# Altium footprint library SN65LVDS4.PcbLib: 1 footprints
Each footprint in its own frame and in the unit in brackets; x right, y up, seen from the top. Pads: shape width x height; smd on the part's side, far side on the other; paste and mask are expansions set on the pad; w line width, h text height; cw(c..) or ccw(c..) is an arc to the next point about the centre after c.
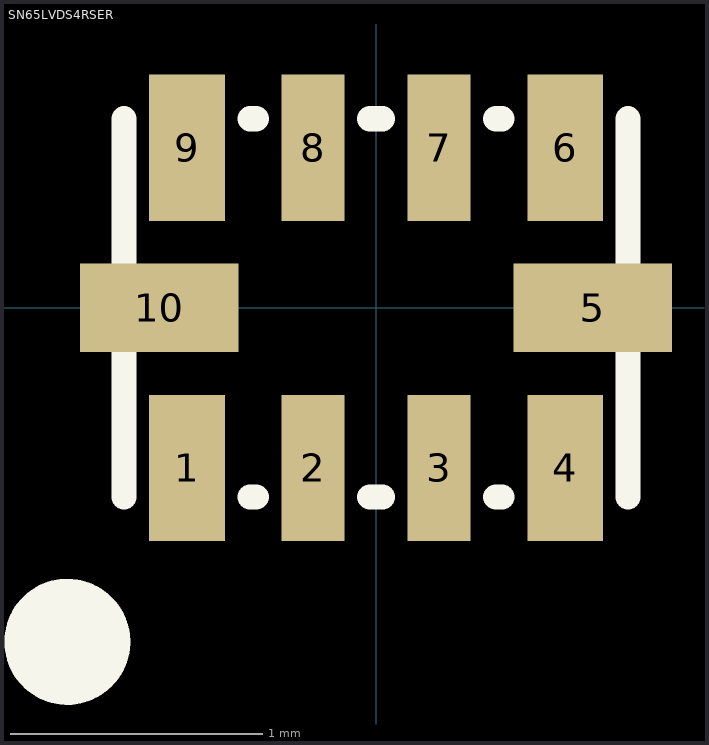
[diagram p0: the footprint, top view; thin cyan lines are the x and y axes]

## SN65LVDS4RSER [mm] "SN65LVDS4  1.8-V High-Speed  Differential  Line Receiver"
pads (10):
  rect 0.3x0.58 smd mask+0.05: 1(-0.75,-0.635) 4(0.75,-0.635) 6(0.75,0.635) 9(-0.75,0.635)
  rect 0.25x0.58 smd mask+0.05: 2(-0.25,-0.635) 3(0.25,-0.635) 7(0.25,0.635) 8(-0.25,0.635)
  rect 0.63x0.35 smd mask+0.05: 5(0.86,0) 10(-0.86,0)
Top Overlay:
  circle w0.25: c-1.225,-1.325 r0.125
  lines w0.1: -1,-0.75 -1,0.75 ; -0.5,-0.75 -0.475,-0.75 ; -0.5,0.75 -0.475,0.75 ; -0.025,-0.75 0.025,-0.75 ; -0.025,0.75 0.025,0.75 ; 0.475,-0.75 0.5,-0.75 ; 0.475,0.75 0.5,0.75 ; 1,-0.75 1,0.75